# Altium footprint library Custom pcb footprint.PcbLib: 87 footprints (part 1 of 6)
Each footprint in its own frame and in the unit in brackets; x right, y up, seen from the top. Pads: shape width x height; smd on the part's side, far side on the other; paste and mask are expansions set on the pad; w line width, h text height; cw(c..) or ccw(c..) is an arc to the next point about the centre after c.
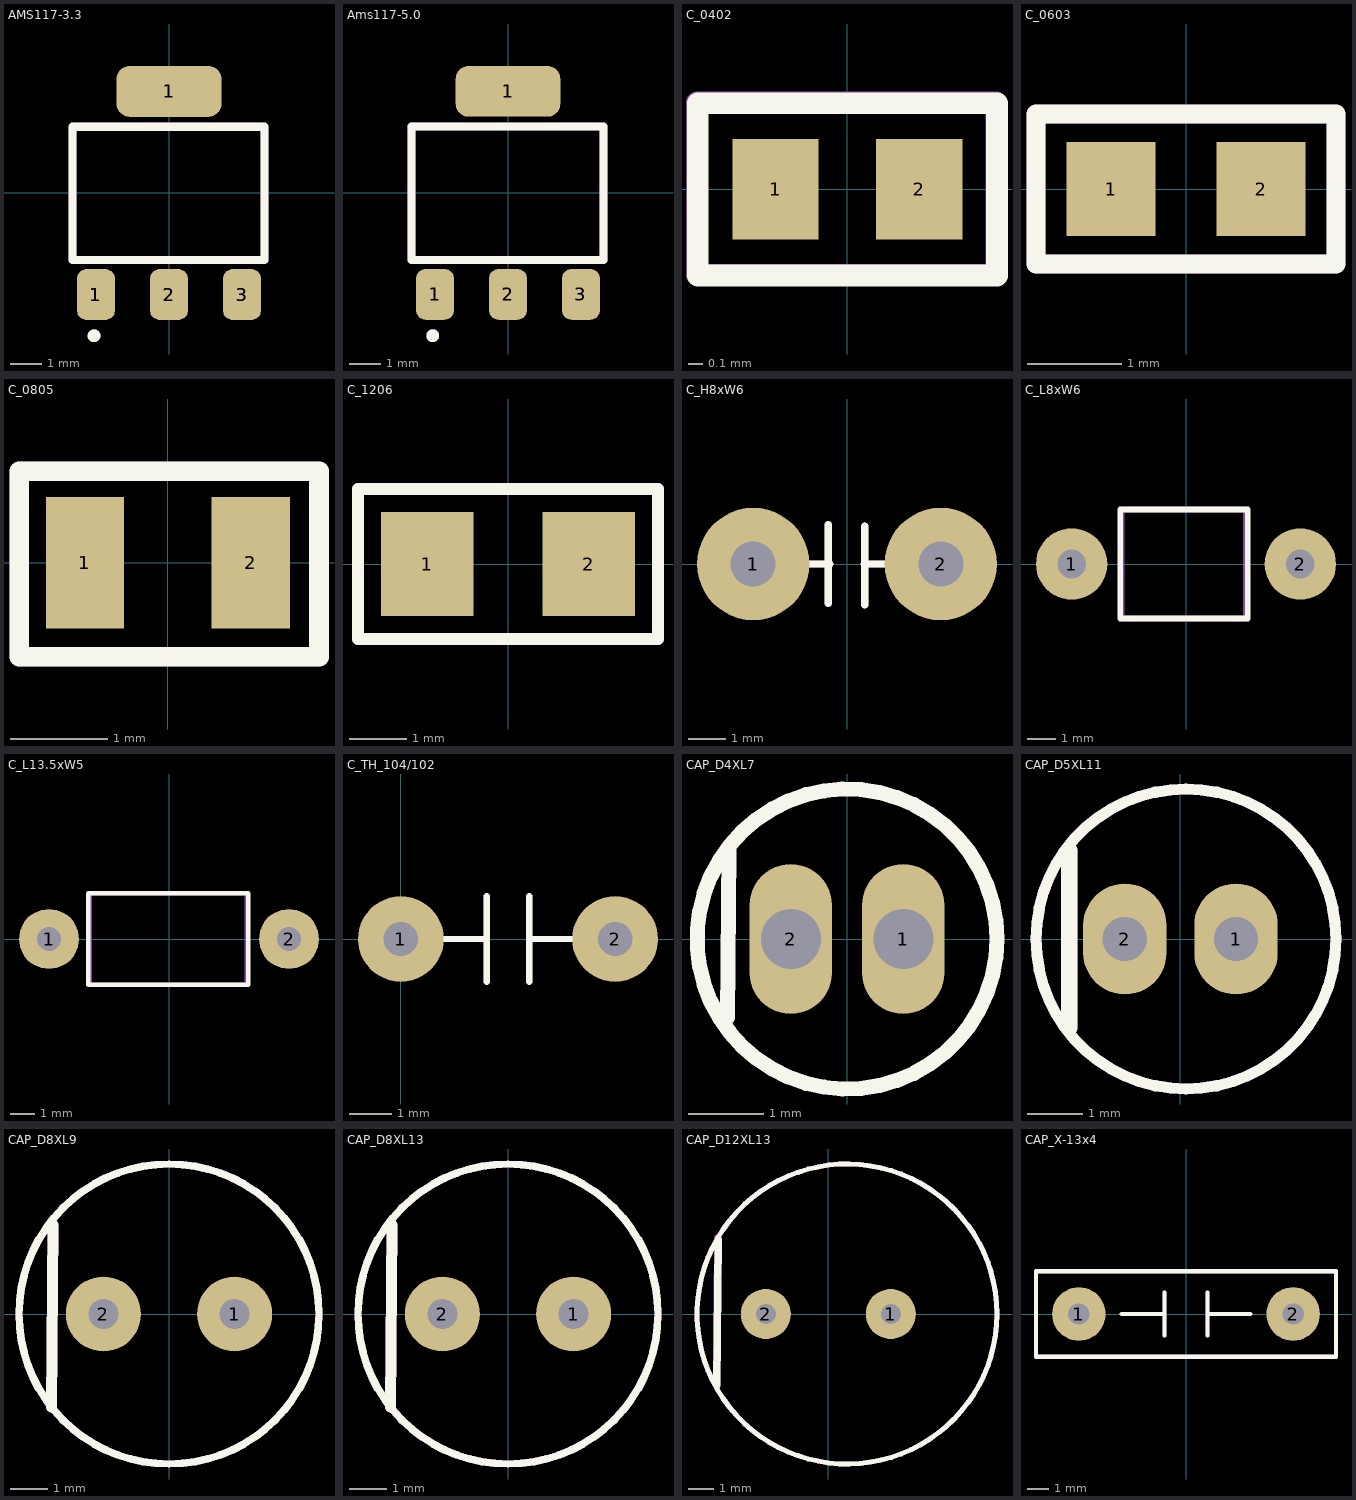
[diagram p0: the footprints below, top view; thin cyan lines are the x and y axes]

## AMS117-3.3 [mm]
pads (8):
  rrect50% 1.2x1.6 smd: 1(-2.3,-3.2) 2(0,-3.2) 3(2.3,-3.2)
  rrect50% 1.2x1.6 on Mech2: 1(-2.3,-3.2) 2(0,-3.2) 3(2.3,-3.2)
  rrect50% 3.3x1.6 smd: 1(0,3.2)
  rrect50% 3.3x1.6 on Mech2: 1(0,3.2)
Top Overlay:
  circle w0.2: c-2.363,-4.5 r0.1
  lines w0.254: -3.035,-2.114 3.015,-2.114 3.015,2.086 -3.035,2.086 -3.035,-2.114
Top Assembly:
  circle w0.2: c-2.354,-4.49 r0.1
  lines w0.254: -3.035,-2.114 3.015,-2.114 3.015,2.086 -3.035,2.086 -3.035,-2.114
  text "'.Designator'" at -2.4,-0.917 h0.7
3D body "AMS1117-3.3.STEP": height 1.8, standoff 0, extent -3.251,-3.594 3.251,3.404
3D body "AMS1117-3.3.STEP": height 1.8, standoff 0, extent -3.251,-3.594 3.251,3.404

## Ams117-5.0 [mm]
pads (8):
  rrect50% 1.2x1.6 smd: 1(-2.3,-3.2) 2(0,-3.2) 3(2.3,-3.2)
  rrect50% 1.2x1.6 on Mech2: 1(-2.3,-3.2) 2(0,-3.2) 3(2.3,-3.2)
  rrect50% 3.3x1.6 smd: 1(0,3.2)
  rrect50% 3.3x1.6 on Mech2: 1(0,3.2)
Top Overlay:
  circle w0.2: c-2.374,-4.506 r0.1
  lines w0.254: -3.035,-2.114 3.015,-2.114 3.015,2.086 -3.035,2.086 -3.035,-2.114
Top Assembly:
  circle w0.2: c-2.367,-4.483 r0.1
  lines w0.254: -3.035,-2.114 3.015,-2.114 3.015,2.086 -3.035,2.086 -3.035,-2.114
  text "'.Designator'" at -2.65,-1.167 h0.7
3D body "AMS1117-5.0--3DModel-STEP-418109.STEP": height 1.8, standoff 0, extent -3.251,-3.499 3.251,3.499

## C_0402 [mm]
pads (2):
  rect 0.6x0.7 smd: 1(-0.5,0) 2(0.5,0)
Top Overlay:
  lines w0.15: -1.041,-0.6 -1.041,0.6 1.041,0.6 1.041,-0.6 -1.041,-0.6
Top Assembly:
  lines w0.15: -1.047,-0.596 -1.047,0.604 1.036,0.604 1.036,-0.596 -1.047,-0.596
  text "'.Designator'" at -0.789,-0.114 h0.5
3D body "0402YA470JAT2A.STEP": height 0.51, standoff 0.01, extent -0.498,-0.284 0.502,0.276

## C_0603 [mm]
pads (2):
  rect 0.95x1 smd: 1(-0.8,0) 2(0.8,0)
Top Overlay:
  lines w0.2: -1.6,-0.8 -1.6,0.8 1.6,0.8 1.6,-0.8 -1.6,-0.8
Top Assembly:
  lines w0.2: -1.6,-0.8 -1.6,0.8 1.6,0.8 1.6,-0.8 -1.6,-0.8
  text "'.Designator'" at -1.275,-0.3 h0.6
3D body "0603YC223KAT2A.STEP": height 0.82, standoff 0.01, extent -0.8,-0.45 0.8,0.45
3D body "0603YC223KAT2A.STEP": height 0.82, standoff 0.01, extent -0.8,-0.45 0.8,0.45

## C_0805 [mm]
pads (2):
  rect 0.8x1.35 smd: 1(-0.85,0) 2(0.85,0)
Top Overlay:
  lines w0.2: -1.524,-0.965 -1.524,0.94 1.549,0.94 1.549,-0.965 -1.524,-0.965
Top Assembly:
  lines w0.2: -1.524,-0.965 -1.524,0.94 1.549,0.94 1.549,-0.965 -1.524,-0.965
  text "'.Designator'" at -1.17,-0.302 h0.7
3D body "0805YC103J4T2A.STEP": height 0.95, standoff 0.01, extent -1.005,-0.625 1.005,0.625

## C_1206 [mm]
pads (2):
  rect 1.6x1.8 smd: 1(-1.4,0) 2(1.4,0)
Top Overlay:
  lines w0.2: -2.6,-1.3 2.6,-1.3 2.6,1.3 -2.6,1.3 -2.6,-1.3
Top Assembly:
  lines w0.2: -2.6,-1.3 2.6,-1.3 2.6,1.3 -2.6,1.3 -2.6,-1.3
  text "'.Designator'" at -2.2,-0.267 h0.7
3D body "C1206C120J5GACTU.STEP": height 0.89, standoff 0.01, extent -1.6,-0.8 1.6,0.8

## C_H8xW6 [mm] "p=5mm"
pads (2):
  round 3 hole 1.2: 1(-2.5,0) 2(2.5,0)
Top Overlay:
  lines w0.2: -1.063,0 -0.454,0 ; -0.5,-1.046 -0.5,1.046 ; 0.454,0 1.144,0 ; 0.472,-1.083 0.472,1.009
Top Assembly:
  lines w0.2: -1.063,0 -0.454,0 ; -0.5,-1.046 -0.5,1.046 ; 0.454,0 1.144,0 ; 0.472,-1.083 0.472,1.009
  text "'.Designator'" at -1.746,-1.738 h1.52
3D body "C_W6xH8_P5.step": height 8.8, standoff -2.2, extent -2.995,-0.499 3.005,0.501

## C_L8xW6 [mm] "P=8mm"
pads (2):
  round 2.5 hole 1: 1(-4,0) 2(4,0)
Top Overlay:
  lines w0.2: -2.299,-1.905 2.158,-1.905 2.158,1.905 -2.299,1.905 -2.299,-1.905
Top Assembly:
  lines w0.2: -2.259,-1.905 -2.259,1.905 2.102,1.905 2.102,-1.905 -2.259,-1.905
  text "'.Designator'" at -1.651,-0.508 h1.52

## C_L13.5xW5 [mm] "p=10mm"
pads (2):
  round 2.5 hole 1: 1(-5,0) 2(5,0)
Top Overlay:
  lines w0.2: -3.366,-1.905 -3.366,1.905 3.299,1.905 3.299,-1.905 -3.366,-1.905
Top Assembly:
  lines w0.2: -3.315,-1.905 -3.315,1.905 3.238,1.905 3.238,-1.905 -3.315,-1.905
  text "'.Designator'" at -3.746,-1.238 h1.52
3D body "ECQ-E6103KF.stp": height 6.3, standoff -2.7, extent -5.783,-1.625 5.783,1.625

## C_TH_104/102 [mm] "TH 104/102 capacitor 5mm Pitch"
pads (2):
  round 2 hole 0.8: 1(0,0) 2(5,0)
Top Overlay:
  lines w0.15: 1,0 2,0 ; 2,-1 2,1 ; 3,-1 3,1 ; 3,0 4,0
Top Assembly:
  lines w0.15: 1,0 2,0 ; 2,-1 2,1 ; 3,-1 3,1 ; 3,0 4,0
  text "'.Designator'" at 0.982,-0.422 h0.8
3D body "Cap_104_5mmPitch.step": height 6, standoff -1.5, extent -0.2,-1 5.2,1

## CAP_D4XL7 [mm] "p=1.5mm"
pads (2):
  oval 1.1x2 hole 0.8: 1(0.75,0) 2(-0.75,0)
Top Overlay:
  circle w0.2: c0,0 r2
  lines w0.2: -1.594,-1.049 -1.575,1.187
Top Assembly:
  text "'.Designator'" at -0.8,-0.941 h0.7
3D body "Cap_D4xL7_P1.5.step": height 7.3, standoff -1.62, extent -2.021,-2 2,2

## CAP_D5XL11 [mm] "p=2mm"
pads (2):
  oval 1.5x2 hole 0.8: 1(1,0) 2(-1,0)
Top Overlay:
  circle w0.2: c0.1,0 r2.7
  lines w0.3: -2,-1.6 -2,1.6
Top Assembly:
  circle w0.2: c0.1,0 r2.7
  lines w0.3: -2,-1.6 -2,1.6
  text "'.Designator'" at -1.1,-0.967 h0.7
3D body "Aluminum_electrolytic_capacitor_radial_D5_H11_PinD0.5_Pitch2_nominal_black.step": height 11.2, standoff -2.8, extent -2.49,-2.499 2.5,2.499

## CAP_D8XL9 [mm] "p=3.5mm"
pads (2):
  round 2 hole 0.8: 1(1.75,0) 2(-1.75,0)
Top Overlay:
  circle w0.2: c0,0 r4
  lines w0.3: -3.135,-2.482 -3.093,2.364
Top Assembly:
  circle w0.2: c0,0 r4
  lines w0.3: -3.135,-2.482 -3.093,2.364
  text "'.Designator'" at -1.85,-0.967 h0.7
3D body "C_D8xL9_P3.5.step": height 9.2, standoff -1.72, extent -4.021,-3.997 4,3.997

## CAP_D8XL13 [mm] "p=3.5mm"
pads (2):
  round 2 hole 0.8: 1(1.75,0) 2(-1.75,0)
Top Overlay:
  circle w0.2: c0,0 r4
  lines w0.3: -3.135,-2.482 -3.093,2.364
Top Assembly:
  circle w0.2: c0,0 r4
  lines w0.3: -3.135,-2.482 -3.093,2.364
  text "'.Designator'" at -1.85,-0.967 h0.7
3D body "Cap_D8xL13_P3.5.step": height 13.3, standoff -1.62, extent -4.021,-3.997 4,3.997

## CAP_D12XL13 [mm] "p=5mm"
pads (2):
  round 2 hole 0.8: 1(2.5,0) 2(-2.5,0)
Top Overlay:
  circle w0.2: c0.75,0 r6
  lines w0.3: -4.452,-2.849 -4.401,2.97
Top Assembly:
  circle w0.2: c0.75,0 r6
  lines w0.3: -4.464,-2.824 -4.413,3.057
  text "'.Designator'" at -1.1,-0.967 h0.7
3D body "Cap_D8xL13_P3.5.step": height 13.3, standoff -1.62, extent -3.271,-3.997 4.75,3.997

## CAP_X-13x4 [mm] "P-10mm"
pads (2):
  round 2.5 hole 1: 1(-5,0) 2(5,0)
Top Overlay:
  lines w0.2: -3,0 -2,0 -1,0 ; -1,-1 -1,1 ; 1,-1 1,1 ; 1,0 2,0 3,0 ; -7,-2 -7,2 7,2 7,-2 -7,-2
Top Assembly:
  lines w0.2: -3,0 -2,0 -1,0 ; -1,-1 -1,1 ; 1,-1 1,1 ; 1,0 2,0 3,0 ; -7,-2 -7,2 7,2 7,-2 -7,-2
  text "'.Designator'" at 0.496,-1.381 h1